# EAGLE library part W25Q64JVXGIM (library LinnesLab-DigitalIC)
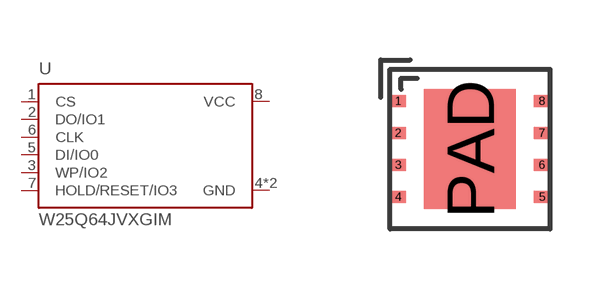
[diagram p30: symbol with the pads of 8-XSON(4X4); footprint 8-XSON(4X4)]

Designator prefix U

## W25Q64JVXGIM  [8-XSON(4X4)]
1  CS
2  DO/IO1
3  WP/IO2
4  GND
5  DI/IO0
6  CLK
7  HOLD/RESET/IO3
8  VCC
PAD  GND

## Footprint 8-XSON(4X4) (pad centres in mm)
smd 0.4 x 0.3: 1 -1.8,1.2; 2 -1.8,0.4; 3 -1.8,-0.4; 4 -1.8,-1.2; 5 1.8,-1.2; 6 1.8,-0.4; 7 1.8,0.4; 8 1.8,1.2
smd 2.3 x 3: PAD 0,0